# EAGLE library part CPL-CON-MICSROSD(SD)-CD (library TinWhiskers)
Connector: MicroSD, Amphenol(10100-Series), Card Detect, Push-Push; Package: SMT(R/A); Datasheet: https://www.amphenolcanada.com/ProductSearch/drawings/AC/1010058159.pdf
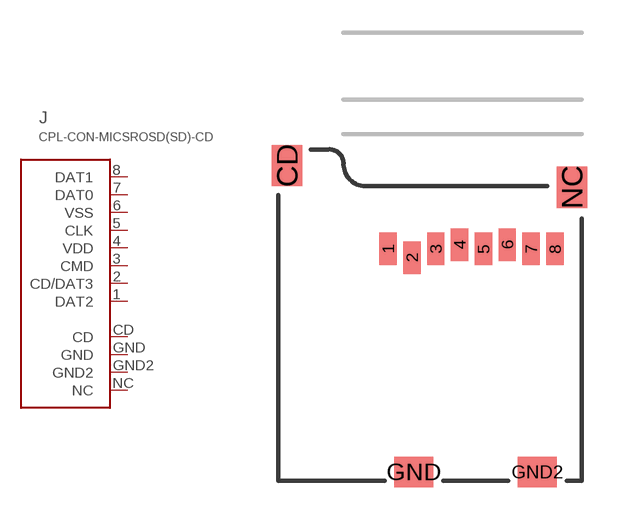
[diagram p35: symbol with the pads of MICRO-SD-SOCKET-AMPH; footprint MICRO-SD-SOCKET-AMPH]

Designator prefix J

## CPL-CON-MICSROSD(SD)-CD  [MICRO-SD-SOCKET-AMPH]
1  DAT2
2  CD/DAT3
3  CMD
4  VDD
5  CLK
6  VSS
7  DAT0
8  DAT1
CD  CD
GND  GND
GND2  GND2
NC  NC

## Footprint MICRO-SD-SOCKET-AMPH (pad centres in mm)
Connector: MicroSD, Card Detect; Package: SMT; Datasheet: https://www.amphenolcanada.com/ProductSearch/drawings/AC/1010058159.pdf
smd 0.8 x 1.5: 1 -2.59,4.35; 2 -1.49,3.95; 3 -0.39,4.35; 4 0.71,4.55; 5 1.81,4.35; 6 2.91,4.55; 7 4.01,4.35; 8 5.11,4.35
smd 1.4 x 1.9: CD -7.25,8.2; NC 5.9,7.2
smd 1.8 x 1.4: GND -1.4,-5.95; GND2 4.3,-5.95